# Altium integrated library ISSI SRAM Asynchronous SRAM 5V High-Speed.IntLib: 100 symbols (part 2 of 5)
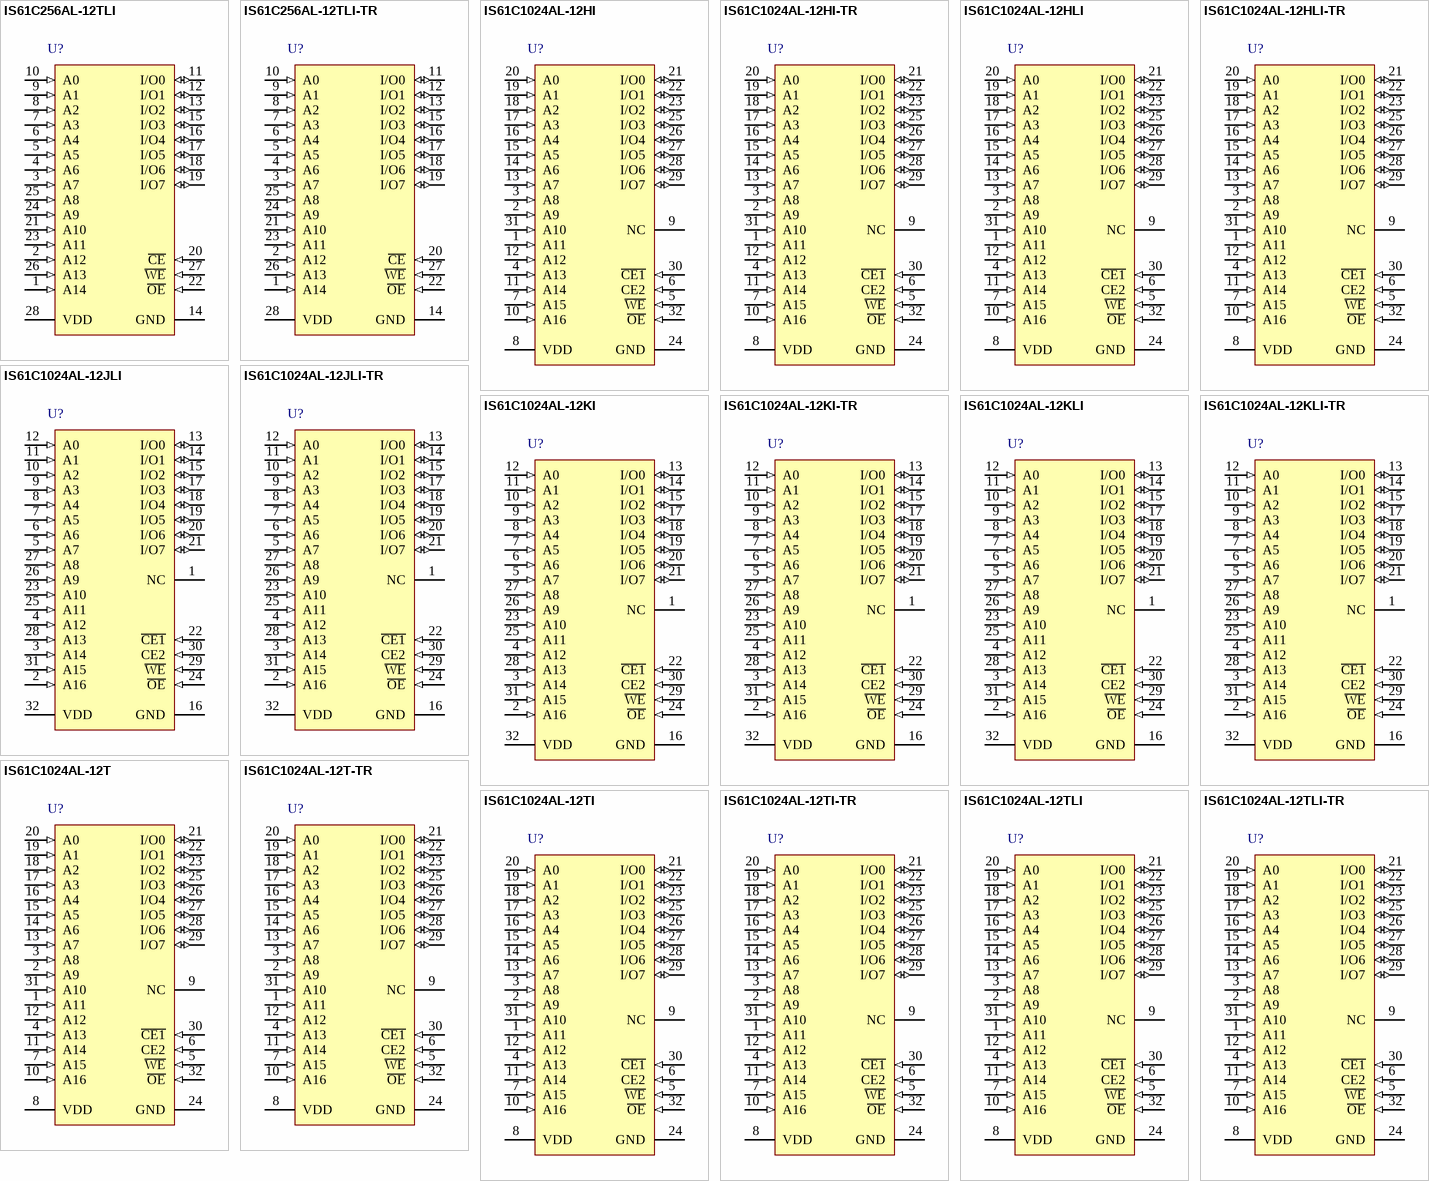
[diagram p6: symbols IS61C256AL-12TLI to IS61C1024AL-12TLI-TR]

## IS61C1024AL-12HLI
designator U?
1 M High Speed CMOS SRAM, 128 K x 8, -40 to 85 degC, 32-Pin SOP (TSOP-1-32), Pb-Free; Manufacturer: Integrated Silicon Solution Inc (ISSI); PartNumber: IS61C1024AL-12HLI; Density: 1M; Organization: 128K x 8; Packing: Tray / Tube; Speed (ns): 12; DatasheetVersion: Rev. D; PackageVersion: Rev. B, 04/2003; PackageReference: TSOP-1-32; PackageDescription: 32-Pin 8.00 x 13.4 mm TSOP-1, Pitch 0.5 mm; Supplier 1: Digi-Key; Supplier Part Number 1: IS61C1024AL-12HLI-ND; Supplier 2: Mouser; Supplier Part Number 2: 870-61C1024AL-12HLI; RoHS: Pb-Free; Mounting Technology: Surface Mount; ComponentLink1Description: Manufacturer URL; ComponentLink1URL: http://www.issi.com/US/index.shtml; ComponentLink2Description: Datasheet; ComponentLink2URL: http://www.issi.com/WW/pdf/61-64C1024AL.pdf; ComponentLink3Description: Package Specification; ComponentLink3URL: http://www.issi.com/WW/pdf/61-64C1024AL.pdf
footprint ISSI-TSOP-1-32-8000x13400DE_N (SOP, 32-Leads, Body 11.9x8.1mm, Pitch 0.5mm, IPC Medium Density)
pins: 1 A11 (in) "Address Input", 2 A9 (in) "Address Input", 3 A8 (in) "Address Input", 4 A13 (in) "Address Input", 5 ~{WE} (in) "Write Enable Input", 6 CE2 (in) "Chip Enable 2 Input", 7 A15 (in) "Address Input", 8 VDD (power) "Power", 9 NC "No Connection", 10 A16 (in) "Address Input", 11 A14 (in) "Address Input", 12 A12 (in) "Address Input", 13 A7 (in) "Address Input", 14 A6 (in) "Address Input", 15 A5 (in) "Address Input", 16 A4 (in) "Address Input", 17 A3 (in) "Address Input", 18 A2 (in) "Address Input", 19 A1 (in) "Address Input", 20 A0 (in) "Address Input", 21 I/O0 (io) "Input/Output", 22 I/O1 (io) "Input/Output", 23 I/O2 (io) "Input/Output", 24 GND (power) "Ground", 25 I/O3 (io) "Input/Output", 26 I/O4 (io) "Input/Output", 27 I/O5 (io) "Input/Output", 28 I/O6 (io) "Input/Output", 29 I/O7 (io) "Input/Output", 30 ~{CE1} (in) "Chip Enable 1 Input", 31 A10 (in) "Address Input", 32 ~{OE} (in) "Output Enable Input"

## IS61C1024AL-12HLI-TR
designator U?
1 M High Speed CMOS SRAM, 128 K x 8, -40 to 85 degC, 32-Pin SOP (TSOP-1-32), Pb-Free; Manufacturer: Integrated Silicon Solution Inc (ISSI); PartNumber: IS61C1024AL-12HLI-TR; Density: 1M; Organization: 128K x 8; Packing: Tape & Reel; Speed (ns): 12; DatasheetVersion: Rev. D; PackageVersion: Rev. E, 06/2006; PackageReference: TSOP-1-32; PackageDescription: 32-Pin TSOP-1, Body 8 x 20 mm, Pitch 0.50 mm; Supplier 1: Digi-Key; Supplier Part Number 1: IS61C1024AL-12HLI-TR-ND; Supplier 2: Mouser; Supplier Part Number 2: 870-61C1024AL-12HLIT; RoHS: Pb-Free; Mounting Technology: Surface Mount; ComponentLink1Description: Manufacturer URL; ComponentLink1URL: http://www.issi.com/US/index.shtml; ComponentLink2Description: Datasheet; ComponentLink2URL: http://www.issi.com/WW/pdf/61-64C1024AL.pdf; ComponentLink3Description: Package Specification; ComponentLink3URL: http://www.issi.com/WW/pdf/61-64C1024AL.pdf
footprint ISSI-TSOP-1-32-8000x20000DE_N (SOP, 32-Leads, Body 18.5x8.2mm, Pitch 0.5mm, IPC Medium Density)
pins: 1 A11 (in) "Address Input", 2 A9 (in) "Address Input", 3 A8 (in) "Address Input", 4 A13 (in) "Address Input", 5 ~{WE} (in) "Write Enable Input", 6 CE2 (in) "Chip Enable 2 Input", 7 A15 (in) "Address Input", 8 VDD (power) "Power", 9 NC "No Connection", 10 A16 (in) "Address Input", 11 A14 (in) "Address Input", 12 A12 (in) "Address Input", 13 A7 (in) "Address Input", 14 A6 (in) "Address Input", 15 A5 (in) "Address Input", 16 A4 (in) "Address Input", 17 A3 (in) "Address Input", 18 A2 (in) "Address Input", 19 A1 (in) "Address Input", 20 A0 (in) "Address Input", 21 I/O0 (io) "Input/Output", 22 I/O1 (io) "Input/Output", 23 I/O2 (io) "Input/Output", 24 GND (power) "Ground", 25 I/O3 (io) "Input/Output", 26 I/O4 (io) "Input/Output", 27 I/O5 (io) "Input/Output", 28 I/O6 (io) "Input/Output", 29 I/O7 (io) "Input/Output", 30 ~{CE1} (in) "Chip Enable 1 Input", 31 A10 (in) "Address Input", 32 ~{OE} (in) "Output Enable Input"

## IS61C1024AL-12JLI
designator U?
1 M High Speed CMOS SRAM, 128 K x 8, -40 to 85 degC, 32-Pin SOJ (SOJ-32), Pb-Free; Manufacturer: Integrated Silicon Solution Inc (ISSI); PartNumber: IS61C1024AL-12JLI; Density: 1M; Organization: 128K x 8; Packing: Tray / Tube; Speed (ns): 12; DatasheetVersion: Rev. D; PackageVersion: Rev. C, 08/2009; PackageReference: SOJ-32; PackageDescription: 32-Pin 300 mil SOJ, Body 20.96 x 7.62 mm, Pitch 1.27 mm; Supplier 1: Digi-Key; Supplier Part Number 1: 706-1028-ND; Supplier 2: Farnell; Supplier Part Number 2: 1695576; Supplier 3: Newark; Supplier Part Number 3: 43M5025; Supplier 4: Mouser; Supplier Part Number 4: 870IS61C1024AL12JLI; RoHS: Pb-Free; Mounting Technology: Surface Mount; ComponentLink1Description: Manufacturer URL; ComponentLink1URL: http://www.issi.com/US/index.shtml; ComponentLink2Description: Datasheet; ComponentLink2URL: http://www.issi.com/WW/pdf/61-64C1024AL.pdf; ComponentLink3Description: Package Specification; ComponentLink3URL: http://www.issi.com/WW/pdf/61-64C1024AL.pdf
footprint ISSI-SOJ-32_A_N (SOJ, 32-Leads, Body 21.09x7.75mm, Pitch 1.27mm, IPC Medium Density)
pins: 1 NC, 2 A16 (in) "Address Input", 3 A14 (in) "Address Input", 4 A12 (in) "Address Input", 5 A7 (in) "Address Input", 6 A6 (in) "Address Input", 7 A5 (in) "Address Input", 8 A4 (in) "Address Input", 9 A3 (in) "Address Input", 10 A2 (in) "Address Input", 11 A1 (in) "Address Input", 12 A0 (in) "Address Input", 13 I/O0 (io) "Input/Output", 14 I/O1 (io) "Input/Output", 15 I/O2 (io) "Input/Output", 16 GND (power) "Ground", 17 I/O3 (io) "Input/Output", 18 I/O4 (io) "Input/Output", 19 I/O5 (io) "Input/Output", 20 I/O6 (io) "Input/Output", 21 I/O7 (io) "Input/Output", 22 ~{CE1} (in) "Chip Enable 1 Input", 23 A10 (in) "Address Input", 24 ~{OE} (in) "Output Enable Input", 25 A11 (in) "Address Input", 26 A9 (in) "Address Input", 27 A8 (in) "Address Input", 28 A13 (in) "Address Input", 29 ~{WE} (in) "Write Enable Input", 30 CE2 (in) "Chip Enable 2 Input", 31 A15 (in) "Address Input", 32 VDD (power) "Power"

## IS61C1024AL-12JLI-TR
designator U?
1 M High Speed CMOS SRAM, 128 K x 8, -40 to 85 degC, 32-Pin SOJ (SOJ-32_A), Pb-Free; Manufacturer: Integrated Silicon Solution Inc (ISSI); PartNumber: IS61C1024AL-12JLI-TR; Density: 1M; Organization: 128K x 8; Packing: Tape & Reel; Speed (ns): 12; DatasheetVersion: Rev. D; PackageVersion: Rev. C, 08/2009; PackageReference: SOJ-32; PackageDescription: 32-Pin 300 mil SOJ, Body 20.96 x 7.62 mm, Pitch 1.27 mm; Supplier 1: Digi-Key; Supplier Part Number 1: IS61C1024AL-12JLI-TR-ND; Supplier 2: Mouser; Supplier Part Number 2: 870IS61C1024AL12JLIT; RoHS: Pb-Free; Mounting Technology: Surface Mount; ComponentLink1Description: Manufacturer URL; ComponentLink1URL: http://www.issi.com/US/index.shtml; ComponentLink2Description: Datasheet; ComponentLink2URL: http://www.issi.com/WW/pdf/61-64C1024AL.pdf; ComponentLink3Description: Package Specification; ComponentLink3URL: http://www.issi.com/WW/pdf/61-64C1024AL.pdf
footprint ISSI-SOJ-32_A_N (SOJ, 32-Leads, Body 21.09x7.75mm, Pitch 1.27mm, IPC Medium Density)
pins: 1 NC, 2 A16 (in) "Address Input", 3 A14 (in) "Address Input", 4 A12 (in) "Address Input", 5 A7 (in) "Address Input", 6 A6 (in) "Address Input", 7 A5 (in) "Address Input", 8 A4 (in) "Address Input", 9 A3 (in) "Address Input", 10 A2 (in) "Address Input", 11 A1 (in) "Address Input", 12 A0 (in) "Address Input", 13 I/O0 (io) "Input/Output", 14 I/O1 (io) "Input/Output", 15 I/O2 (io) "Input/Output", 16 GND (power) "Ground", 17 I/O3 (io) "Input/Output", 18 I/O4 (io) "Input/Output", 19 I/O5 (io) "Input/Output", 20 I/O6 (io) "Input/Output", 21 I/O7 (io) "Input/Output", 22 ~{CE1} (in) "Chip Enable 1 Input", 23 A10 (in) "Address Input", 24 ~{OE} (in) "Output Enable Input", 25 A11 (in) "Address Input", 26 A9 (in) "Address Input", 27 A8 (in) "Address Input", 28 A13 (in) "Address Input", 29 ~{WE} (in) "Write Enable Input", 30 CE2 (in) "Chip Enable 2 Input", 31 A15 (in) "Address Input", 32 VDD (power) "Power"

## IS61C1024AL-12KI
designator U?
1 M High Speed CMOS SRAM, 128 K x 8, -40 to 85 degC, 32-Pin SOJ (SOJ-32); Manufacturer: Integrated Silicon Solution Inc (ISSI); PartNumber: IS61C1024AL-12KI; Density: 1M; Organization: 128K x 8; Packing: Tray / Tube; Speed (ns): 12; DatasheetVersion: Rev. D; PackageVersion: Rev. E, 12/2007; PackageReference: SOJ-32; PackageDescription: 32-Pin 400 mil SOJ, Body 20.95 x 10.16 mm, Pitch 1.27 mm; Supplier 1: Digi-Key; Supplier Part Number 1: IS61C1024AL-12KI-ND; Supplier 2: Mouser; Supplier Part Number 2: 870-IS61C1024AL-12KI; Mounting Technology: Surface Mount; Code_JEDEC: MS-027; ComponentLink1Description: Manufacturer URL; ComponentLink1URL: http://www.issi.com/US/index.shtml; ComponentLink2Description: Datasheet; ComponentLink2URL: http://www.issi.com/WW/pdf/61-64C1024AL.pdf; ComponentLink3Description: Package Specification; ComponentLink3URL: http://www.issi.com/WW/pdf/61-64C1024AL.pdf
footprint ISSI-SOJ-32_B_N (SOJ, 32-Leads, Body 21.08x10.29mm, Pitch 1.27mm, IPC Medium Density)
pins: 1 NC, 2 A16 (in) "Address Input", 3 A14 (in) "Address Input", 4 A12 (in) "Address Input", 5 A7 (in) "Address Input", 6 A6 (in) "Address Input", 7 A5 (in) "Address Input", 8 A4 (in) "Address Input", 9 A3 (in) "Address Input", 10 A2 (in) "Address Input", 11 A1 (in) "Address Input", 12 A0 (in) "Address Input", 13 I/O0 (io) "Input/Output", 14 I/O1 (io) "Input/Output", 15 I/O2 (io) "Input/Output", 16 GND (power) "Ground", 17 I/O3 (io) "Input/Output", 18 I/O4 (io) "Input/Output", 19 I/O5 (io) "Input/Output", 20 I/O6 (io) "Input/Output", 21 I/O7 (io) "Input/Output", 22 ~{CE1} (in) "Chip Enable 1 Input", 23 A10 (in) "Address Input", 24 ~{OE} (in) "Output Enable Input", 25 A11 (in) "Address Input", 26 A9 (in) "Address Input", 27 A8 (in) "Address Input", 28 A13 (in) "Address Input", 29 ~{WE} (in) "Write Enable Input", 30 CE2 (in) "Chip Enable 2 Input", 31 A15 (in) "Address Input", 32 VDD (power) "Power"

## IS61C1024AL-12KI-TR
designator U?
1 M High Speed CMOS SRAM, 128 K x 8, -40 to 85 degC, 32-Pin SOJ (SOJ-32_A); Manufacturer: Integrated Silicon Solution Inc (ISSI); PartNumber: IS61C1024AL-12KI-TR; Density: 1M; Organization: 128K x 8; Packing: Tape & Reel; Speed (ns): 12; DatasheetVersion: Rev. D; PackageVersion: Rev. C, 08/2009; PackageReference: SOJ-32; PackageDescription: 32-Pin 300 mil SOJ, Body 20.96 x 7.62 mm, Pitch 1.27 mm; Supplier 1: Digi-Key; Supplier Part Number 1: IS61C1024AL-12KI-TR-ND; Supplier 2: Mouser; Supplier Part Number 2: 870IS61C1024AL12KITR; Mounting Technology: Surface Mount; ComponentLink1Description: Manufacturer URL; ComponentLink1URL: http://www.issi.com/US/index.shtml; ComponentLink2Description: Datasheet; ComponentLink2URL: http://www.issi.com/WW/pdf/61-64C1024AL.pdf; ComponentLink3Description: Package Specification; ComponentLink3URL: http://www.issi.com/WW/pdf/61-64C1024AL.pdf
footprint ISSI-SOJ-32_A_N (SOJ, 32-Leads, Body 21.09x7.75mm, Pitch 1.27mm, IPC Medium Density)
pins: 1 NC, 2 A16 (in) "Address Input", 3 A14 (in) "Address Input", 4 A12 (in) "Address Input", 5 A7 (in) "Address Input", 6 A6 (in) "Address Input", 7 A5 (in) "Address Input", 8 A4 (in) "Address Input", 9 A3 (in) "Address Input", 10 A2 (in) "Address Input", 11 A1 (in) "Address Input", 12 A0 (in) "Address Input", 13 I/O0 (io) "Input/Output", 14 I/O1 (io) "Input/Output", 15 I/O2 (io) "Input/Output", 16 GND (power) "Ground", 17 I/O3 (io) "Input/Output", 18 I/O4 (io) "Input/Output", 19 I/O5 (io) "Input/Output", 20 I/O6 (io) "Input/Output", 21 I/O7 (io) "Input/Output", 22 ~{CE1} (in) "Chip Enable 1 Input", 23 A10 (in) "Address Input", 24 ~{OE} (in) "Output Enable Input", 25 A11 (in) "Address Input", 26 A9 (in) "Address Input", 27 A8 (in) "Address Input", 28 A13 (in) "Address Input", 29 ~{WE} (in) "Write Enable Input", 30 CE2 (in) "Chip Enable 2 Input", 31 A15 (in) "Address Input", 32 VDD (power) "Power"

## IS61C1024AL-12KLI
designator U?
1 M High Speed CMOS SRAM, 128 K x 8, -40 to 85 degC, 32-Pin SOJ (SOJ-32), Pb-Free; Manufacturer: Integrated Silicon Solution Inc (ISSI); PartNumber: IS61C1024AL-12KLI; Density: 1M; Organization: 128K x 8; Packing: Tray / Tube; Speed (ns): 12; DatasheetVersion: Rev. D; PackageVersion: Rev. E, 12/2007; PackageReference: SOJ-32; PackageDescription: 32-Pin 400 mil SOJ, Body 20.95 x 10.16 mm, Pitch 1.27 mm; Supplier 1: Digi-Key; Supplier Part Number 1: 706-1029-ND; Supplier 2: Newark; Supplier Part Number 2: 43M5029; Supplier 3: Mouser; Supplier Part Number 3: 870IS61C1024AL12KLI; RoHS: Pb-Free; Mounting Technology: Surface Mount; Code_JEDEC: MS-027; ComponentLink1Description: Manufacturer URL; ComponentLink1URL: http://www.issi.com/US/index.shtml; ComponentLink2Description: Datasheet; ComponentLink2URL: http://www.issi.com/WW/pdf/61-64C1024AL.pdf; ComponentLink3Description: Package Specification; ComponentLink3URL: http://www.issi.com/WW/pdf/61-64C1024AL.pdf
footprint ISSI-SOJ-32_B_N (SOJ, 32-Leads, Body 21.08x10.29mm, Pitch 1.27mm, IPC Medium Density)
pins: 1 NC, 2 A16 (in) "Address Input", 3 A14 (in) "Address Input", 4 A12 (in) "Address Input", 5 A7 (in) "Address Input", 6 A6 (in) "Address Input", 7 A5 (in) "Address Input", 8 A4 (in) "Address Input", 9 A3 (in) "Address Input", 10 A2 (in) "Address Input", 11 A1 (in) "Address Input", 12 A0 (in) "Address Input", 13 I/O0 (io) "Input/Output", 14 I/O1 (io) "Input/Output", 15 I/O2 (io) "Input/Output", 16 GND (power) "Ground", 17 I/O3 (io) "Input/Output", 18 I/O4 (io) "Input/Output", 19 I/O5 (io) "Input/Output", 20 I/O6 (io) "Input/Output", 21 I/O7 (io) "Input/Output", 22 ~{CE1} (in) "Chip Enable 1 Input", 23 A10 (in) "Address Input", 24 ~{OE} (in) "Output Enable Input", 25 A11 (in) "Address Input", 26 A9 (in) "Address Input", 27 A8 (in) "Address Input", 28 A13 (in) "Address Input", 29 ~{WE} (in) "Write Enable Input", 30 CE2 (in) "Chip Enable 2 Input", 31 A15 (in) "Address Input", 32 VDD (power) "Power"

## IS61C1024AL-12KLI-TR
designator U?
1 M High Speed CMOS SRAM, 128 K x 8, -40 to 85 degC, 32-Pin SOJ (SOJ-32_A), Pb-Free; Manufacturer: Integrated Silicon Solution Inc (ISSI); PartNumber: IS61C1024AL-12KLI-TR; Density: 1M; Organization: 128K x 8; Packing: Tape & Reel; Speed (ns): 12; DatasheetVersion: Rev. D; PackageVersion: Rev. C, 08/2009; PackageReference: SOJ-32; PackageDescription: 32-Pin 300 mil SOJ, Body 20.96 x 7.62 mm, Pitch 1.27 mm; Supplier 1: Digi-Key; Supplier Part Number 1: IS61C1024AL-12KLI-TR-ND; Supplier 2: Mouser; Supplier Part Number 2: 870IS61C1024AL12KLIT; RoHS: Pb-Free; Mounting Technology: Surface Mount; ComponentLink1Description: Manufacturer URL; ComponentLink1URL: http://www.issi.com/US/index.shtml; ComponentLink2Description: Datasheet; ComponentLink2URL: http://www.issi.com/WW/pdf/61-64C1024AL.pdf; ComponentLink3Description: Package Specification; ComponentLink3URL: http://www.issi.com/WW/pdf/61-64C1024AL.pdf
footprint ISSI-SOJ-32_A_N (SOJ, 32-Leads, Body 21.09x7.75mm, Pitch 1.27mm, IPC Medium Density)
pins: 1 NC, 2 A16 (in) "Address Input", 3 A14 (in) "Address Input", 4 A12 (in) "Address Input", 5 A7 (in) "Address Input", 6 A6 (in) "Address Input", 7 A5 (in) "Address Input", 8 A4 (in) "Address Input", 9 A3 (in) "Address Input", 10 A2 (in) "Address Input", 11 A1 (in) "Address Input", 12 A0 (in) "Address Input", 13 I/O0 (io) "Input/Output", 14 I/O1 (io) "Input/Output", 15 I/O2 (io) "Input/Output", 16 GND (power) "Ground", 17 I/O3 (io) "Input/Output", 18 I/O4 (io) "Input/Output", 19 I/O5 (io) "Input/Output", 20 I/O6 (io) "Input/Output", 21 I/O7 (io) "Input/Output", 22 ~{CE1} (in) "Chip Enable 1 Input", 23 A10 (in) "Address Input", 24 ~{OE} (in) "Output Enable Input", 25 A11 (in) "Address Input", 26 A9 (in) "Address Input", 27 A8 (in) "Address Input", 28 A13 (in) "Address Input", 29 ~{WE} (in) "Write Enable Input", 30 CE2 (in) "Chip Enable 2 Input", 31 A15 (in) "Address Input", 32 VDD (power) "Power"

## IS61C1024AL-12T
designator U?
1 M High Speed CMOS SRAM, 128 K x 8, 0 to 70 degC, 32-Pin SOP (TSOP-1-32); Manufacturer: Integrated Silicon Solution Inc (ISSI); PartNumber: IS61C1024AL-12T; Density: 1M; Organization: 128K x 8; Packing: Tray / Tube; Speed (ns): 12; DatasheetVersion: Rev. D; PackageVersion: Rev. E, 06/2006; PackageReference: TSOP-1-32; PackageDescription: 32-Pin TSOP-1, Body 8 x 20 mm, Pitch 0.50 mm; Supplier 1: Mouser; Supplier Part Number 1: N/A; Mounting Technology: Surface Mount; ComponentLink1Description: Manufacturer URL; ComponentLink1URL: http://www.issi.com/US/index.shtml; ComponentLink2Description: Datasheet; ComponentLink2URL: http://www.issi.com/WW/pdf/61-64C1024AL.pdf; ComponentLink3Description: Package Specification; ComponentLink3URL: http://www.issi.com/WW/pdf/61-64C1024AL.pdf
footprint ISSI-TSOP-1-32-8000x20000DE_N (SOP, 32-Leads, Body 18.5x8.2mm, Pitch 0.5mm, IPC Medium Density)
pins: 1 A11 (in) "Address Input", 2 A9 (in) "Address Input", 3 A8 (in) "Address Input", 4 A13 (in) "Address Input", 5 ~{WE} (in) "Write Enable Input", 6 CE2 (in) "Chip Enable 2 Input", 7 A15 (in) "Address Input", 8 VDD (power) "Power", 9 NC "No Connection", 10 A16 (in) "Address Input", 11 A14 (in) "Address Input", 12 A12 (in) "Address Input", 13 A7 (in) "Address Input", 14 A6 (in) "Address Input", 15 A5 (in) "Address Input", 16 A4 (in) "Address Input", 17 A3 (in) "Address Input", 18 A2 (in) "Address Input", 19 A1 (in) "Address Input", 20 A0 (in) "Address Input", 21 I/O0 (io) "Input/Output", 22 I/O1 (io) "Input/Output", 23 I/O2 (io) "Input/Output", 24 GND (power) "Ground", 25 I/O3 (io) "Input/Output", 26 I/O4 (io) "Input/Output", 27 I/O5 (io) "Input/Output", 28 I/O6 (io) "Input/Output", 29 I/O7 (io) "Input/Output", 30 ~{CE1} (in) "Chip Enable 1 Input", 31 A10 (in) "Address Input", 32 ~{OE} (in) "Output Enable Input"

## IS61C1024AL-12T-TR
designator U?
1 M High Speed CMOS SRAM, 128 K x 8, 0 to 70 degC, 32-Pin SOP (TSOP-1-32); Manufacturer: Integrated Silicon Solution Inc (ISSI); PartNumber: IS61C1024AL-12T-TR; Density: 1M; Organization: 128K x 8; Packing: Tape & Reel; Speed (ns): 12; DatasheetVersion: Rev. D; PackageVersion: Rev. E, 06/2006; PackageReference: TSOP-1-32; PackageDescription: 32-Pin TSOP-1, Body 8 x 20 mm, Pitch 0.50 mm; Mounting Technology: Surface Mount; ComponentLink1Description: Manufacturer URL; ComponentLink1URL: http://www.issi.com/US/index.shtml; ComponentLink2Description: Datasheet; ComponentLink2URL: http://www.issi.com/WW/pdf/61-64C1024AL.pdf; ComponentLink3Description: Package Specification; ComponentLink3URL: http://www.issi.com/WW/pdf/61-64C1024AL.pdf
footprint ISSI-TSOP-1-32-8000x20000DE_N (SOP, 32-Leads, Body 18.5x8.2mm, Pitch 0.5mm, IPC Medium Density)
pins: 1 A11 (in) "Address Input", 2 A9 (in) "Address Input", 3 A8 (in) "Address Input", 4 A13 (in) "Address Input", 5 ~{WE} (in) "Write Enable Input", 6 CE2 (in) "Chip Enable 2 Input", 7 A15 (in) "Address Input", 8 VDD (power) "Power", 9 NC "No Connection", 10 A16 (in) "Address Input", 11 A14 (in) "Address Input", 12 A12 (in) "Address Input", 13 A7 (in) "Address Input", 14 A6 (in) "Address Input", 15 A5 (in) "Address Input", 16 A4 (in) "Address Input", 17 A3 (in) "Address Input", 18 A2 (in) "Address Input", 19 A1 (in) "Address Input", 20 A0 (in) "Address Input", 21 I/O0 (io) "Input/Output", 22 I/O1 (io) "Input/Output", 23 I/O2 (io) "Input/Output", 24 GND (power) "Ground", 25 I/O3 (io) "Input/Output", 26 I/O4 (io) "Input/Output", 27 I/O5 (io) "Input/Output", 28 I/O6 (io) "Input/Output", 29 I/O7 (io) "Input/Output", 30 ~{CE1} (in) "Chip Enable 1 Input", 31 A10 (in) "Address Input", 32 ~{OE} (in) "Output Enable Input"

## IS61C1024AL-12TI
designator U?
1 M High Speed CMOS SRAM, 128 K x 8, -40 to 85 degC, 32-Pin SOP (TSOP-1-32); Manufacturer: Integrated Silicon Solution Inc (ISSI); PartNumber: IS61C1024AL-12TI; Density: 1M; Organization: 128K x 8; Packing: Tray / Tube; Speed (ns): 12; DatasheetVersion: Rev. D; PackageVersion: Rev. E, 06/2006; PackageReference: TSOP-1-32; PackageDescription: 32-Pin TSOP-1, Body 8 x 20 mm, Pitch 0.50 mm; Supplier 1: Digi-Key; Supplier Part Number 1: IS61C1024AL-12TI-ND; Supplier 2: Newark; Supplier Part Number 2: 43M5031; Supplier 3: Mouser; Supplier Part Number 3: 870-IS61C1024AL-12TI; Mounting Technology: Surface Mount; ComponentLink1Description: Manufacturer URL; ComponentLink1URL: http://www.issi.com/US/index.shtml; ComponentLink2Description: Datasheet; ComponentLink2URL: http://www.issi.com/WW/pdf/61-64C1024AL.pdf; ComponentLink3Description: Package Specification; ComponentLink3URL: http://www.issi.com/WW/pdf/61-64C1024AL.pdf
footprint ISSI-TSOP-1-32-8000x20000DE_N (SOP, 32-Leads, Body 18.5x8.2mm, Pitch 0.5mm, IPC Medium Density)
pins: 1 A11 (in) "Address Input", 2 A9 (in) "Address Input", 3 A8 (in) "Address Input", 4 A13 (in) "Address Input", 5 ~{WE} (in) "Write Enable Input", 6 CE2 (in) "Chip Enable 2 Input", 7 A15 (in) "Address Input", 8 VDD (power) "Power", 9 NC "No Connection", 10 A16 (in) "Address Input", 11 A14 (in) "Address Input", 12 A12 (in) "Address Input", 13 A7 (in) "Address Input", 14 A6 (in) "Address Input", 15 A5 (in) "Address Input", 16 A4 (in) "Address Input", 17 A3 (in) "Address Input", 18 A2 (in) "Address Input", 19 A1 (in) "Address Input", 20 A0 (in) "Address Input", 21 I/O0 (io) "Input/Output", 22 I/O1 (io) "Input/Output", 23 I/O2 (io) "Input/Output", 24 GND (power) "Ground", 25 I/O3 (io) "Input/Output", 26 I/O4 (io) "Input/Output", 27 I/O5 (io) "Input/Output", 28 I/O6 (io) "Input/Output", 29 I/O7 (io) "Input/Output", 30 ~{CE1} (in) "Chip Enable 1 Input", 31 A10 (in) "Address Input", 32 ~{OE} (in) "Output Enable Input"

## IS61C1024AL-12TI-TR
designator U?
1 M High Speed CMOS SRAM, 128 K x 8, -40 to 85 degC, 32-Pin SOP (TSOP-1-32); Manufacturer: Integrated Silicon Solution Inc (ISSI); PartNumber: IS61C1024AL-12TI-TR; Density: 1M; Organization: 128K x 8; Packing: Tape & Reel; Speed (ns): 12; DatasheetVersion: Rev. D; PackageVersion: Rev. E, 06/2006; PackageReference: TSOP-1-32; PackageDescription: 32-Pin TSOP-1, Body 8 x 20 mm, Pitch 0.50 mm; Supplier 1: Digi-Key; Supplier Part Number 1: IS61C1024AL-12TI-TR-ND; Supplier 2: Mouser; Supplier Part Number 2: 870IS61C1024AL12TITR; Mounting Technology: Surface Mount; ComponentLink1Description: Manufacturer URL; ComponentLink1URL: http://www.issi.com/US/index.shtml; ComponentLink2Description: Datasheet; ComponentLink2URL: http://www.issi.com/WW/pdf/61-64C1024AL.pdf; ComponentLink3Description: Package Specification; ComponentLink3URL: http://www.issi.com/WW/pdf/61-64C1024AL.pdf
footprint ISSI-TSOP-1-32-8000x20000DE_N (SOP, 32-Leads, Body 18.5x8.2mm, Pitch 0.5mm, IPC Medium Density)
pins: 1 A11 (in) "Address Input", 2 A9 (in) "Address Input", 3 A8 (in) "Address Input", 4 A13 (in) "Address Input", 5 ~{WE} (in) "Write Enable Input", 6 CE2 (in) "Chip Enable 2 Input", 7 A15 (in) "Address Input", 8 VDD (power) "Power", 9 NC "No Connection", 10 A16 (in) "Address Input", 11 A14 (in) "Address Input", 12 A12 (in) "Address Input", 13 A7 (in) "Address Input", 14 A6 (in) "Address Input", 15 A5 (in) "Address Input", 16 A4 (in) "Address Input", 17 A3 (in) "Address Input", 18 A2 (in) "Address Input", 19 A1 (in) "Address Input", 20 A0 (in) "Address Input", 21 I/O0 (io) "Input/Output", 22 I/O1 (io) "Input/Output", 23 I/O2 (io) "Input/Output", 24 GND (power) "Ground", 25 I/O3 (io) "Input/Output", 26 I/O4 (io) "Input/Output", 27 I/O5 (io) "Input/Output", 28 I/O6 (io) "Input/Output", 29 I/O7 (io) "Input/Output", 30 ~{CE1} (in) "Chip Enable 1 Input", 31 A10 (in) "Address Input", 32 ~{OE} (in) "Output Enable Input"

## IS61C1024AL-12TLI
designator U?
1 M High Speed CMOS SRAM, 128 K x 8, -40 to 85 degC, 32-Pin SOP (TSOP-1-32), Pb-Free; Manufacturer: Integrated Silicon Solution Inc (ISSI); PartNumber: IS61C1024AL-12TLI; Density: 1M; Organization: 128K x 8; Packing: Tray / Tube; Speed (ns): 12; DatasheetVersion: Rev. D; PackageVersion: Rev. E, 06/2006; PackageReference: TSOP-1-32; PackageDescription: 32-Pin TSOP-1, Body 8 x 20 mm, Pitch 0.50 mm; Supplier 1: Digi-Key; Supplier Part Number 1: 706-1087-ND; Supplier 2: Mouser; Supplier Part Number 2: 870IS61C1024AL12TLI; RoHS: Pb-Free; Mounting Technology: Surface Mount; ComponentLink1Description: Manufacturer URL; ComponentLink1URL: http://www.issi.com/US/index.shtml; ComponentLink2Description: Datasheet; ComponentLink2URL: http://www.issi.com/WW/pdf/61-64C1024AL.pdf; ComponentLink3Description: Package Specification; ComponentLink3URL: http://www.issi.com/WW/pdf/61-64C1024AL.pdf
footprint ISSI-TSOP-1-32-8000x20000DE_N (SOP, 32-Leads, Body 18.5x8.2mm, Pitch 0.5mm, IPC Medium Density)
pins: 1 A11 (in) "Address Input", 2 A9 (in) "Address Input", 3 A8 (in) "Address Input", 4 A13 (in) "Address Input", 5 ~{WE} (in) "Write Enable Input", 6 CE2 (in) "Chip Enable 2 Input", 7 A15 (in) "Address Input", 8 VDD (power) "Power", 9 NC "No Connection", 10 A16 (in) "Address Input", 11 A14 (in) "Address Input", 12 A12 (in) "Address Input", 13 A7 (in) "Address Input", 14 A6 (in) "Address Input", 15 A5 (in) "Address Input", 16 A4 (in) "Address Input", 17 A3 (in) "Address Input", 18 A2 (in) "Address Input", 19 A1 (in) "Address Input", 20 A0 (in) "Address Input", 21 I/O0 (io) "Input/Output", 22 I/O1 (io) "Input/Output", 23 I/O2 (io) "Input/Output", 24 GND (power) "Ground", 25 I/O3 (io) "Input/Output", 26 I/O4 (io) "Input/Output", 27 I/O5 (io) "Input/Output", 28 I/O6 (io) "Input/Output", 29 I/O7 (io) "Input/Output", 30 ~{CE1} (in) "Chip Enable 1 Input", 31 A10 (in) "Address Input", 32 ~{OE} (in) "Output Enable Input"

## IS61C1024AL-12TLI-TR
designator U?
1 M High Speed CMOS SRAM, 128 K x 8, -40 to 85 degC, 32-Pin SOP (TSOP-1-32), Pb-Free; Manufacturer: Integrated Silicon Solution Inc (ISSI); PartNumber: IS61C1024AL-12TLI-TR; Density: 1M; Organization: 128K x 8; Packing: Tape & Reel; Speed (ns): 12; DatasheetVersion: Rev. D; PackageVersion: Rev. B, 04/2003; PackageReference: TSOP-1-32; PackageDescription: 32-Pin 8.00 x 13.4 mm TSOP-1, Pitch 0.5 mm; Supplier 1: Digi-Key; Supplier Part Number 1: IS61C1024AL-12TLI-TR-ND; Supplier 2: Mouser; Supplier Part Number 2: 870IS61C1024AL12TLIT; RoHS: Pb-Free; Mounting Technology: Surface Mount; ComponentLink1Description: Manufacturer URL; ComponentLink1URL: http://www.issi.com/US/index.shtml; ComponentLink2Description: Datasheet; ComponentLink2URL: http://www.issi.com/WW/pdf/61-64C1024AL.pdf; ComponentLink3Description: Package Specification; ComponentLink3URL: http://www.issi.com/WW/pdf/61-64C1024AL.pdf
footprint ISSI-TSOP-1-32-8000x13400DE_N (SOP, 32-Leads, Body 11.9x8.1mm, Pitch 0.5mm, IPC Medium Density)
pins: 1 A11 (in) "Address Input", 2 A9 (in) "Address Input", 3 A8 (in) "Address Input", 4 A13 (in) "Address Input", 5 ~{WE} (in) "Write Enable Input", 6 CE2 (in) "Chip Enable 2 Input", 7 A15 (in) "Address Input", 8 VDD (power) "Power", 9 NC "No Connection", 10 A16 (in) "Address Input", 11 A14 (in) "Address Input", 12 A12 (in) "Address Input", 13 A7 (in) "Address Input", 14 A6 (in) "Address Input", 15 A5 (in) "Address Input", 16 A4 (in) "Address Input", 17 A3 (in) "Address Input", 18 A2 (in) "Address Input", 19 A1 (in) "Address Input", 20 A0 (in) "Address Input", 21 I/O0 (io) "Input/Output", 22 I/O1 (io) "Input/Output", 23 I/O2 (io) "Input/Output", 24 GND (power) "Ground", 25 I/O3 (io) "Input/Output", 26 I/O4 (io) "Input/Output", 27 I/O5 (io) "Input/Output", 28 I/O6 (io) "Input/Output", 29 I/O7 (io) "Input/Output", 30 ~{CE1} (in) "Chip Enable 1 Input", 31 A10 (in) "Address Input", 32 ~{OE} (in) "Output Enable Input"

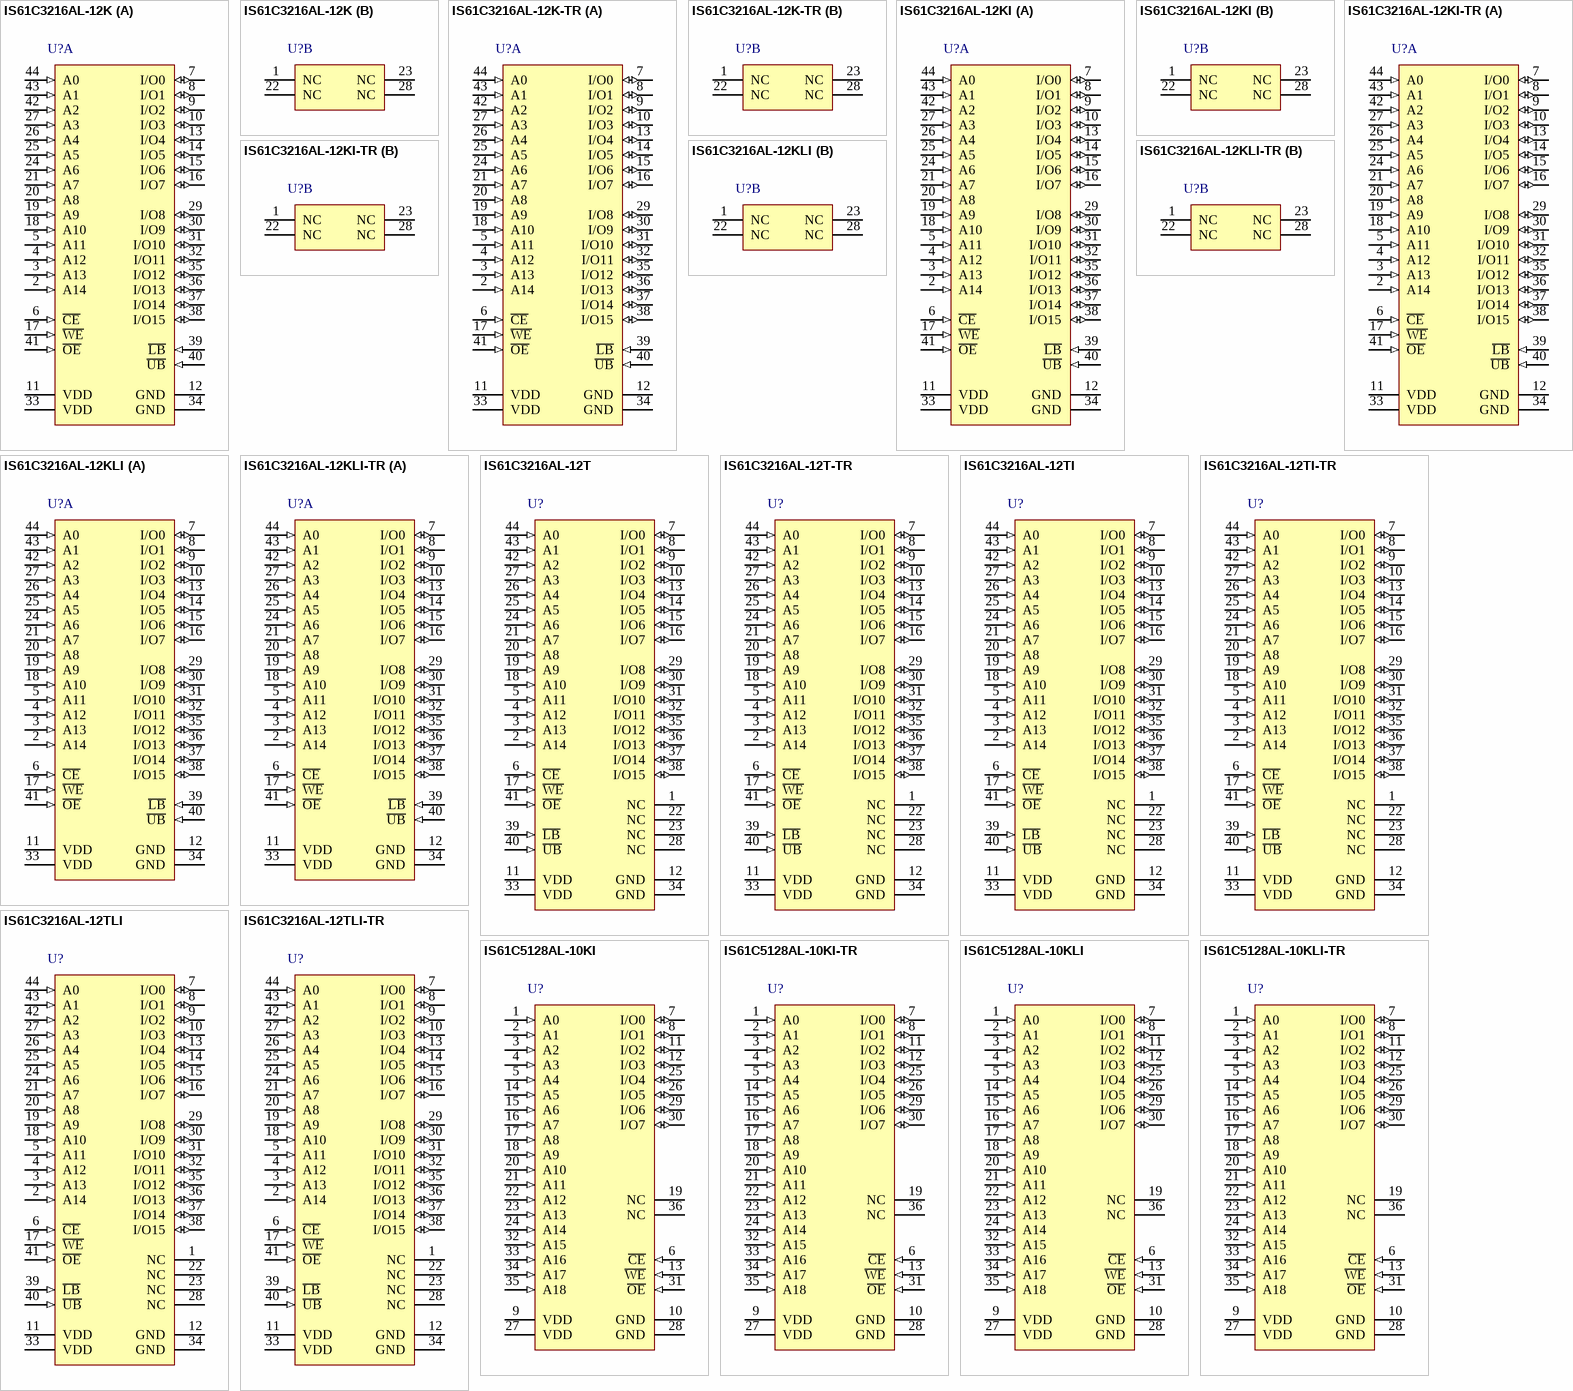
[diagram p2: symbols IS61C3216AL-12K to IS61C5128AL-10KLI-TR]

## IS61C3216AL-12K
designator U?
512 K High Speed CMOS SRAM, 32 K x 16, 0 to 70 degC, 44-Pin SOJ (SOJ-44); Manufacturer: Integrated Silicon Solution Inc (ISSI); PartNumber: IS61C3216AL-12K; Density: 512K; Organization: 32K x 16; Packing: Tray / Tube; Speed (ns): 12; DatasheetVersion: Rev. A; PackageVersion: Rev. E, 12/2007; PackageReference: SOJ-44; PackageDescription: 44-Pin 400 mil SOJ, Body 28.58 x 10.16 mm, Pitch 1.27 mm; Mounting Technology: Surface Mount; Code_JEDEC: MS-027; ComponentLink1Description: Manufacturer URL; ComponentLink1URL: http://www.issi.com/US/index.shtml; ComponentLink2Description: Datasheet; ComponentLink2URL: http://www.issi.com/WW/pdf/61C3216AL.pdf; ComponentLink3Description: Package Specification; ComponentLink3URL: http://www.issi.com/WW/pdf/61-64WV25616.pdf
footprint ISSI-SOJ-44_N (SOJ, 44-Leads, Body 28.7x10.29mm, Pitch 1.27mm, IPC Medium Density)
part A pins: 2 A14 (in) "Address Input", 3 A13 (in) "Address Input", 4 A12 (in) "Address Input", 5 A11 (in) "Address Input", 6 ~{CE} (in) "Chip Enable Input", 7 I/O0 (io) "Data Inputs/Output", 8 I/O1 (io) "Data Inputs/Output", 9 I/O2 (io) "Data Inputs/Output", 10 I/O3 (io) "Data Inputs/Output", 11 VDD (power) "Power", 12 GND (power) "Ground", 13 I/O4 (io) "Data Inputs/Output", 14 I/O5 (io) "Data Inputs/Output", 15 I/O6 (io) "Data Inputs/Output", 16 I/O7 (io) "Data Inputs/Output", 17 ~{WE} (in) "Write Enable Input", 18 A10 (in) "Address Input", 19 A9 (in) "Address Input", 20 A8 (in) "Address Input", 21 A7 (in) "Address Input", 24 A6 (in) "Address Input", 25 A5 (in) "Address Input", 26 A4 (in) "Address Input", 27 A3 (in) "Address Input", 29 I/O8 (io) "Data Inputs/Output", 30 I/O9 (io) "Data Inputs/Output", 31 I/O10 (io) "Data Inputs/Output", 32 I/O11 (io) "Data Inputs/Output", 33 VDD (power) "Power", 34 GND (power) "Ground", 35 I/O12 (io) "Data Inputs/Output", 36 I/O13 (io) "Data Inputs/Output", 37 I/O14 (io) "Data Inputs/Output", 38 I/O15 (io) "Data Inputs/Output", 39 ~{LB} (in) "Lower-byte Control (I/O0-I/O7)", 40 ~{UB} (in) "Upper-byte Control (I/O8-I/O15)", 41 ~{OE} (in) "Output Enable Input", 42 A2 (in) "Address Input", 43 A1 (in) "Address Input", 44 A0 (in) "Address Input"
part B pins: 1 NC "No Connection", 22 NC "No Connection", 23 NC "No Connection", 28 NC "No Connection"

## IS61C3216AL-12K-TR
designator U?
512 K High Speed CMOS SRAM, 32 K x 16, 0 to 70 degC, 44-Pin SOJ (SOJ-44); Manufacturer: Integrated Silicon Solution Inc (ISSI); PartNumber: IS61C3216AL-12K-TR; Density: 512K; Organization: 32K x 16; Packing: Tape & Reel; Speed (ns): 12; DatasheetVersion: Rev. A; PackageVersion: Rev. E, 12/2007; PackageReference: SOJ-44; PackageDescription: 44-Pin 400 mil SOJ, Body 28.58 x 10.16 mm, Pitch 1.27 mm; Mounting Technology: Surface Mount; Code_JEDEC: MS-027; ComponentLink1Description: Manufacturer URL; ComponentLink1URL: http://www.issi.com/US/index.shtml; ComponentLink2Description: Datasheet; ComponentLink2URL: http://www.issi.com/WW/pdf/61C3216AL.pdf; ComponentLink3Description: Package Specification; ComponentLink3URL: http://www.issi.com/WW/pdf/61-64WV25616.pdf
footprint ISSI-SOJ-44_N (SOJ, 44-Leads, Body 28.7x10.29mm, Pitch 1.27mm, IPC Medium Density)
part A pins: 2 A14 (in) "Address Input", 3 A13 (in) "Address Input", 4 A12 (in) "Address Input", 5 A11 (in) "Address Input", 6 ~{CE} (in) "Chip Enable Input", 7 I/O0 (io) "Data Inputs/Output", 8 I/O1 (io) "Data Inputs/Output", 9 I/O2 (io) "Data Inputs/Output", 10 I/O3 (io) "Data Inputs/Output", 11 VDD (power) "Power", 12 GND (power) "Ground", 13 I/O4 (io) "Data Inputs/Output", 14 I/O5 (io) "Data Inputs/Output", 15 I/O6 (io) "Data Inputs/Output", 16 I/O7 (io) "Data Inputs/Output", 17 ~{WE} (in) "Write Enable Input", 18 A10 (in) "Address Input", 19 A9 (in) "Address Input", 20 A8 (in) "Address Input", 21 A7 (in) "Address Input", 24 A6 (in) "Address Input", 25 A5 (in) "Address Input", 26 A4 (in) "Address Input", 27 A3 (in) "Address Input", 29 I/O8 (io) "Data Inputs/Output", 30 I/O9 (io) "Data Inputs/Output", 31 I/O10 (io) "Data Inputs/Output", 32 I/O11 (io) "Data Inputs/Output", 33 VDD (power) "Power", 34 GND (power) "Ground", 35 I/O12 (io) "Data Inputs/Output", 36 I/O13 (io) "Data Inputs/Output", 37 I/O14 (io) "Data Inputs/Output", 38 I/O15 (io) "Data Inputs/Output", 39 ~{LB} (in) "Lower-byte Control (I/O0-I/O7)", 40 ~{UB} (in) "Upper-byte Control (I/O8-I/O15)", 41 ~{OE} (in) "Output Enable Input", 42 A2 (in) "Address Input", 43 A1 (in) "Address Input", 44 A0 (in) "Address Input"
part B pins: 1 NC "No Connection", 22 NC "No Connection", 23 NC "No Connection", 28 NC "No Connection"

## IS61C3216AL-12KI
designator U?
512 K High Speed CMOS SRAM, 32 K x 16, -40 to 85 degC, 44-Pin SOJ (SOJ-44); Manufacturer: Integrated Silicon Solution Inc (ISSI); PartNumber: IS61C3216AL-12KI; Density: 512K; Organization: 32K x 16; Packing: Tray / Tube; Speed (ns): 12; DatasheetVersion: Rev. A; PackageVersion: Rev. E, 12/2007; PackageReference: SOJ-44; PackageDescription: 44-Pin 400 mil SOJ, Body 28.58 x 10.16 mm, Pitch 1.27 mm; Supplier 1: Mouser; Supplier Part Number 1: N/A; Mounting Technology: Surface Mount; Code_JEDEC: MS-027; ComponentLink1Description: Manufacturer URL; ComponentLink1URL: http://www.issi.com/US/index.shtml; ComponentLink2Description: Datasheet; ComponentLink2URL: http://www.issi.com/WW/pdf/61C3216AL.pdf; ComponentLink3Description: Package Specification; ComponentLink3URL: http://www.issi.com/WW/pdf/61-64WV25616.pdf
footprint ISSI-SOJ-44_N (SOJ, 44-Leads, Body 28.7x10.29mm, Pitch 1.27mm, IPC Medium Density)
part A pins: 2 A14 (in) "Address Input", 3 A13 (in) "Address Input", 4 A12 (in) "Address Input", 5 A11 (in) "Address Input", 6 ~{CE} (in) "Chip Enable Input", 7 I/O0 (io) "Data Inputs/Output", 8 I/O1 (io) "Data Inputs/Output", 9 I/O2 (io) "Data Inputs/Output", 10 I/O3 (io) "Data Inputs/Output", 11 VDD (power) "Power", 12 GND (power) "Ground", 13 I/O4 (io) "Data Inputs/Output", 14 I/O5 (io) "Data Inputs/Output", 15 I/O6 (io) "Data Inputs/Output", 16 I/O7 (io) "Data Inputs/Output", 17 ~{WE} (in) "Write Enable Input", 18 A10 (in) "Address Input", 19 A9 (in) "Address Input", 20 A8 (in) "Address Input", 21 A7 (in) "Address Input", 24 A6 (in) "Address Input", 25 A5 (in) "Address Input", 26 A4 (in) "Address Input", 27 A3 (in) "Address Input", 29 I/O8 (io) "Data Inputs/Output", 30 I/O9 (io) "Data Inputs/Output", 31 I/O10 (io) "Data Inputs/Output", 32 I/O11 (io) "Data Inputs/Output", 33 VDD (power) "Power", 34 GND (power) "Ground", 35 I/O12 (io) "Data Inputs/Output", 36 I/O13 (io) "Data Inputs/Output", 37 I/O14 (io) "Data Inputs/Output", 38 I/O15 (io) "Data Inputs/Output", 39 ~{LB} (in) "Lower-byte Control (I/O0-I/O7)", 40 ~{UB} (in) "Upper-byte Control (I/O8-I/O15)", 41 ~{OE} (in) "Output Enable Input", 42 A2 (in) "Address Input", 43 A1 (in) "Address Input", 44 A0 (in) "Address Input"
part B pins: 1 NC "No Connection", 22 NC "No Connection", 23 NC "No Connection", 28 NC "No Connection"

## IS61C3216AL-12KI-TR
designator U?
512 K High Speed CMOS SRAM, 32 K x 16, -40 to 85 degC, 44-Pin SOJ (SOJ-44); Manufacturer: Integrated Silicon Solution Inc (ISSI); PartNumber: IS61C3216AL-12KI-TR; Density: 512K; Organization: 32K x 16; Packing: Tape & Reel; Speed (ns): 12; DatasheetVersion: Rev. A; PackageVersion: Rev. E, 12/2007; PackageReference: SOJ-44; PackageDescription: 44-Pin 400 mil SOJ, Body 28.58 x 10.16 mm, Pitch 1.27 mm; Supplier 1: Mouser; Supplier Part Number 1: N/A; Mounting Technology: Surface Mount; Code_JEDEC: MS-027; ComponentLink1Description: Manufacturer URL; ComponentLink1URL: http://www.issi.com/US/index.shtml; ComponentLink2Description: Datasheet; ComponentLink2URL: http://www.issi.com/WW/pdf/61C3216AL.pdf; ComponentLink3Description: Package Specification; ComponentLink3URL: http://www.issi.com/WW/pdf/61-64WV25616.pdf
footprint ISSI-SOJ-44_N (SOJ, 44-Leads, Body 28.7x10.29mm, Pitch 1.27mm, IPC Medium Density)
part A pins: 2 A14 (in) "Address Input", 3 A13 (in) "Address Input", 4 A12 (in) "Address Input", 5 A11 (in) "Address Input", 6 ~{CE} (in) "Chip Enable Input", 7 I/O0 (io) "Data Inputs/Output", 8 I/O1 (io) "Data Inputs/Output", 9 I/O2 (io) "Data Inputs/Output", 10 I/O3 (io) "Data Inputs/Output", 11 VDD (power) "Power", 12 GND (power) "Ground", 13 I/O4 (io) "Data Inputs/Output", 14 I/O5 (io) "Data Inputs/Output", 15 I/O6 (io) "Data Inputs/Output", 16 I/O7 (io) "Data Inputs/Output", 17 ~{WE} (in) "Write Enable Input", 18 A10 (in) "Address Input", 19 A9 (in) "Address Input", 20 A8 (in) "Address Input", 21 A7 (in) "Address Input", 24 A6 (in) "Address Input", 25 A5 (in) "Address Input", 26 A4 (in) "Address Input", 27 A3 (in) "Address Input", 29 I/O8 (io) "Data Inputs/Output", 30 I/O9 (io) "Data Inputs/Output", 31 I/O10 (io) "Data Inputs/Output", 32 I/O11 (io) "Data Inputs/Output", 33 VDD (power) "Power", 34 GND (power) "Ground", 35 I/O12 (io) "Data Inputs/Output", 36 I/O13 (io) "Data Inputs/Output", 37 I/O14 (io) "Data Inputs/Output", 38 I/O15 (io) "Data Inputs/Output", 39 ~{LB} (in) "Lower-byte Control (I/O0-I/O7)", 40 ~{UB} (in) "Upper-byte Control (I/O8-I/O15)", 41 ~{OE} (in) "Output Enable Input", 42 A2 (in) "Address Input", 43 A1 (in) "Address Input", 44 A0 (in) "Address Input"
part B pins: 1 NC "No Connection", 22 NC "No Connection", 23 NC "No Connection", 28 NC "No Connection"

## IS61C3216AL-12KLI
designator U?
512 K High Speed CMOS SRAM, 32 K x 16, -40 to 85 degC, 44-Pin SOJ (SOJ-44), Pb-Free; Manufacturer: Integrated Silicon Solution Inc (ISSI); PartNumber: IS61C3216AL-12KLI; Density: 512K; Organization: 32K x 16; Packing: Tray / Tube; Speed (ns): 12; DatasheetVersion: Rev. A; PackageVersion: Rev. E, 12/2007; PackageReference: SOJ-44; PackageDescription: 44-Pin 400 mil SOJ, Body 28.58 x 10.16 mm, Pitch 1.27 mm; Supplier 1: Digi-Key; Supplier Part Number 1: IS61C3216AL-12KLI-ND; Supplier 2: Mouser; Supplier Part Number 2: 870IS61C3216AL12KLI; RoHS: Pb-Free; Mounting Technology: Surface Mount; Code_JEDEC: MS-027; ComponentLink1Description: Manufacturer URL; ComponentLink1URL: http://www.issi.com/US/index.shtml; ComponentLink2Description: Datasheet; ComponentLink2URL: http://www.issi.com/WW/pdf/61C3216AL.pdf; ComponentLink3Description: Package Specification; ComponentLink3URL: http://www.issi.com/WW/pdf/61-64WV25616.pdf
footprint ISSI-SOJ-44_N (SOJ, 44-Leads, Body 28.7x10.29mm, Pitch 1.27mm, IPC Medium Density)
part A pins: 2 A14 (in) "Address Input", 3 A13 (in) "Address Input", 4 A12 (in) "Address Input", 5 A11 (in) "Address Input", 6 ~{CE} (in) "Chip Enable Input", 7 I/O0 (io) "Data Inputs/Output", 8 I/O1 (io) "Data Inputs/Output", 9 I/O2 (io) "Data Inputs/Output", 10 I/O3 (io) "Data Inputs/Output", 11 VDD (power) "Power", 12 GND (power) "Ground", 13 I/O4 (io) "Data Inputs/Output", 14 I/O5 (io) "Data Inputs/Output", 15 I/O6 (io) "Data Inputs/Output", 16 I/O7 (io) "Data Inputs/Output", 17 ~{WE} (in) "Write Enable Input", 18 A10 (in) "Address Input", 19 A9 (in) "Address Input", 20 A8 (in) "Address Input", 21 A7 (in) "Address Input", 24 A6 (in) "Address Input", 25 A5 (in) "Address Input", 26 A4 (in) "Address Input", 27 A3 (in) "Address Input", 29 I/O8 (io) "Data Inputs/Output", 30 I/O9 (io) "Data Inputs/Output", 31 I/O10 (io) "Data Inputs/Output", 32 I/O11 (io) "Data Inputs/Output", 33 VDD (power) "Power", 34 GND (power) "Ground", 35 I/O12 (io) "Data Inputs/Output", 36 I/O13 (io) "Data Inputs/Output", 37 I/O14 (io) "Data Inputs/Output", 38 I/O15 (io) "Data Inputs/Output", 39 ~{LB} (in) "Lower-byte Control (I/O0-I/O7)", 40 ~{UB} (in) "Upper-byte Control (I/O8-I/O15)", 41 ~{OE} (in) "Output Enable Input", 42 A2 (in) "Address Input", 43 A1 (in) "Address Input", 44 A0 (in) "Address Input"
part B pins: 1 NC "No Connection", 22 NC "No Connection", 23 NC "No Connection", 28 NC "No Connection"

## IS61C3216AL-12KLI-TR
designator U?
512 K High Speed CMOS SRAM, 32 K x 16, -40 to 85 degC, 44-Pin SOJ (SOJ-44), Pb-Free; Manufacturer: Integrated Silicon Solution Inc (ISSI); PartNumber: IS61C3216AL-12KLI-TR; Density: 512K; Organization: 32K x 16; Packing: Tape & Reel; Speed (ns): 12; DatasheetVersion: Rev. A; PackageVersion: Rev. E, 12/2007; PackageReference: SOJ-44; PackageDescription: 44-Pin 400 mil SOJ, Body 28.58 x 10.16 mm, Pitch 1.27 mm; Supplier 1: Digi-Key; Supplier Part Number 1: IS61C3216AL-12KLI-TR-ND; Supplier 2: Mouser; Supplier Part Number 2: 870IS61C3216AL12KLIT; RoHS: Pb-Free; Mounting Technology: Surface Mount; Code_JEDEC: MS-027; ComponentLink1Description: Manufacturer URL; ComponentLink1URL: http://www.issi.com/US/index.shtml; ComponentLink2Description: Datasheet; ComponentLink2URL: http://www.issi.com/WW/pdf/61C3216AL.pdf; ComponentLink3Description: Package Specification; ComponentLink3URL: http://www.issi.com/WW/pdf/61-64WV25616.pdf
footprint ISSI-SOJ-44_N (SOJ, 44-Leads, Body 28.7x10.29mm, Pitch 1.27mm, IPC Medium Density)
part A pins: 2 A14 (in) "Address Input", 3 A13 (in) "Address Input", 4 A12 (in) "Address Input", 5 A11 (in) "Address Input", 6 ~{CE} (in) "Chip Enable Input", 7 I/O0 (io) "Data Inputs/Output", 8 I/O1 (io) "Data Inputs/Output", 9 I/O2 (io) "Data Inputs/Output", 10 I/O3 (io) "Data Inputs/Output", 11 VDD (power) "Power", 12 GND (power) "Ground", 13 I/O4 (io) "Data Inputs/Output", 14 I/O5 (io) "Data Inputs/Output", 15 I/O6 (io) "Data Inputs/Output", 16 I/O7 (io) "Data Inputs/Output", 17 ~{WE} (in) "Write Enable Input", 18 A10 (in) "Address Input", 19 A9 (in) "Address Input", 20 A8 (in) "Address Input", 21 A7 (in) "Address Input", 24 A6 (in) "Address Input", 25 A5 (in) "Address Input", 26 A4 (in) "Address Input", 27 A3 (in) "Address Input", 29 I/O8 (io) "Data Inputs/Output", 30 I/O9 (io) "Data Inputs/Output", 31 I/O10 (io) "Data Inputs/Output", 32 I/O11 (io) "Data Inputs/Output", 33 VDD (power) "Power", 34 GND (power) "Ground", 35 I/O12 (io) "Data Inputs/Output", 36 I/O13 (io) "Data Inputs/Output", 37 I/O14 (io) "Data Inputs/Output", 38 I/O15 (io) "Data Inputs/Output", 39 ~{LB} (in) "Lower-byte Control (I/O0-I/O7)", 40 ~{UB} (in) "Upper-byte Control (I/O8-I/O15)", 41 ~{OE} (in) "Output Enable Input", 42 A2 (in) "Address Input", 43 A1 (in) "Address Input", 44 A0 (in) "Address Input"
part B pins: 1 NC "No Connection", 22 NC "No Connection", 23 NC "No Connection", 28 NC "No Connection"

## IS61C3216AL-12T
designator U?
512 K High Speed CMOS SRAM, 32 K x 16, 0 to 70 degC, 44-Pin SOP (TSOP-2-44); Manufacturer: Integrated Silicon Solution Inc (ISSI); PartNumber: IS61C3216AL-12T; Density: 512K; Organization: 32K x 16; Packing: Tray / Tube; Speed (ns): 12; DatasheetVersion: Rev. A; PackageVersion: Rev. F, 06/2008; PackageReference: TSOP-2-44; PackageDescription: 44-Pin 400 mil TSOP-2, Body 18.41 x 10.16 mm, Pitch 0.8 mm; Mounting Technology: Surface Mount; ComponentLink1Description: Manufacturer URL; ComponentLink1URL: http://www.issi.com/US/index.shtml; ComponentLink2Description: Datasheet; ComponentLink2URL: http://www.issi.com/WW/pdf/61C3216AL.pdf; ComponentLink3Description: Package Specification; ComponentLink3URL: http://www.issi.com/WW/pdf/61-64WV6416EEBLL.pdf
footprint ISSI-TSOP-2-44_N (SOP, 44-Leads, Body 18.5x10.3mm, Pitch 0.8mm, IPC Medium Density)
pins: 1 NC "No Connection", 2 A14 (in) "Address Inputs", 3 A13 (in) "Address Inputs", 4 A12 (in) "Address Inputs", 5 A11 (in) "Address Inputs", 6 ~{CE} (in) "Chip Enable Input", 7 I/O0 (io) "Data Inputs/Outputs", 8 I/O1 (io) "Data Inputs/Outputs", 9 I/O2 (io) "Data Inputs/Outputs", 10 I/O3 (io) "Data Inputs/Outputs", 11 VDD (power) "Power", 12 GND (power) "Ground", 13 I/O4 (io) "Data Inputs/Outputs", 14 I/O5 (io) "Data Inputs/Outputs", 15 I/O6 (io) "Data Inputs/Outputs", 16 I/O7 (io) "Data Inputs/Outputs", 17 ~{WE} (in) "Write Enable Input", 18 A10 (in) "Address Inputs", 19 A9 (in) "Address Inputs", 20 A8 (in) "Address Inputs", 21 A7 (in) "Address Inputs", 22 NC "No Connection", 23 NC "No Connection", 24 A6 (in) "Address Inputs", 25 A5 (in) "Address Inputs", 26 A4 (in) "Address Inputs", 27 A3 (in) "Address Inputs", 28 NC "No Connection", 29 I/O8 (io) "Data Inputs/Outputs", 30 I/O9 (io) "Data Inputs/Outputs", 31 I/O10 (io) "Data Inputs/Outputs", 32 I/O11 (io) "Data Inputs/Outputs", 33 VDD (power) "Power", 34 GND (power) "Ground", 35 I/O12 (io) "Data Inputs/Outputs", 36 I/O13 (io) "Data Inputs/Outputs", 37 I/O14 (io) "Data Inputs/Outputs", 38 I/O15 (io) "Data Inputs/Outputs", 39 ~{LB} (in) "Lower-byte Control (I/O0-I/O7)", 40 ~{UB} (in) "Upper-byte Control (I/O8-I/O15)", 41 ~{OE} (in) "Output Enable Input", 42 A2 (in) "Address Inputs", 43 A1 (in) "Address Inputs", 44 A0 (in) "Address Inputs"

## IS61C3216AL-12T-TR
designator U?
512 K High Speed CMOS SRAM, 32 K x 16, 0 to 70 degC, 44-Pin SOP (TSOP-2-44); Manufacturer: Integrated Silicon Solution Inc (ISSI); PartNumber: IS61C3216AL-12T-TR; Density: 512K; Organization: 32K x 16; Packing: Tape & Reel; Speed (ns): 12; DatasheetVersion: Rev. A; PackageVersion: Rev. F, 06/2008; PackageReference: TSOP-2-44; PackageDescription: 44-Pin 400 mil TSOP-2, Body 18.41 x 10.16 mm, Pitch 0.8 mm; Mounting Technology: Surface Mount; ComponentLink1Description: Manufacturer URL; ComponentLink1URL: http://www.issi.com/US/index.shtml; ComponentLink2Description: Datasheet; ComponentLink2URL: http://www.issi.com/WW/pdf/61C3216AL.pdf; ComponentLink3Description: Package Specification; ComponentLink3URL: http://www.issi.com/WW/pdf/61-64WV6416EEBLL.pdf
footprint ISSI-TSOP-2-44_N (SOP, 44-Leads, Body 18.5x10.3mm, Pitch 0.8mm, IPC Medium Density)
pins: 1 NC "No Connection", 2 A14 (in) "Address Inputs", 3 A13 (in) "Address Inputs", 4 A12 (in) "Address Inputs", 5 A11 (in) "Address Inputs", 6 ~{CE} (in) "Chip Enable Input", 7 I/O0 (io) "Data Inputs/Outputs", 8 I/O1 (io) "Data Inputs/Outputs", 9 I/O2 (io) "Data Inputs/Outputs", 10 I/O3 (io) "Data Inputs/Outputs", 11 VDD (power) "Power", 12 GND (power) "Ground", 13 I/O4 (io) "Data Inputs/Outputs", 14 I/O5 (io) "Data Inputs/Outputs", 15 I/O6 (io) "Data Inputs/Outputs", 16 I/O7 (io) "Data Inputs/Outputs", 17 ~{WE} (in) "Write Enable Input", 18 A10 (in) "Address Inputs", 19 A9 (in) "Address Inputs", 20 A8 (in) "Address Inputs", 21 A7 (in) "Address Inputs", 22 NC "No Connection", 23 NC "No Connection", 24 A6 (in) "Address Inputs", 25 A5 (in) "Address Inputs", 26 A4 (in) "Address Inputs", 27 A3 (in) "Address Inputs", 28 NC "No Connection", 29 I/O8 (io) "Data Inputs/Outputs", 30 I/O9 (io) "Data Inputs/Outputs", 31 I/O10 (io) "Data Inputs/Outputs", 32 I/O11 (io) "Data Inputs/Outputs", 33 VDD (power) "Power", 34 GND (power) "Ground", 35 I/O12 (io) "Data Inputs/Outputs", 36 I/O13 (io) "Data Inputs/Outputs", 37 I/O14 (io) "Data Inputs/Outputs", 38 I/O15 (io) "Data Inputs/Outputs", 39 ~{LB} (in) "Lower-byte Control (I/O0-I/O7)", 40 ~{UB} (in) "Upper-byte Control (I/O8-I/O15)", 41 ~{OE} (in) "Output Enable Input", 42 A2 (in) "Address Inputs", 43 A1 (in) "Address Inputs", 44 A0 (in) "Address Inputs"

## IS61C3216AL-12TI
designator U?
512 K High Speed CMOS SRAM, 32 K x 16, -40 to 85 degC, 44-Pin SOP (TSOP-2-44); Manufacturer: Integrated Silicon Solution Inc (ISSI); PartNumber: IS61C3216AL-12TI; Density: 512K; Organization: 32K x 16; Packing: Tray / Tube; Speed (ns): 12; DatasheetVersion: Rev. A; PackageVersion: Rev. F, 06/2008; PackageReference: TSOP-2-44; PackageDescription: 44-Pin 400 mil TSOP-2, Body 18.41 x 10.16 mm, Pitch 0.8 mm; Supplier 1: Mouser; Supplier Part Number 1: N/A; Mounting Technology: Surface Mount; ComponentLink1Description: Manufacturer URL; ComponentLink1URL: http://www.issi.com/US/index.shtml; ComponentLink2Description: Datasheet; ComponentLink2URL: http://www.issi.com/WW/pdf/61C3216AL.pdf; ComponentLink3Description: Package Specification; ComponentLink3URL: http://www.issi.com/WW/pdf/61-64WV6416EEBLL.pdf
footprint ISSI-TSOP-2-44_N (SOP, 44-Leads, Body 18.5x10.3mm, Pitch 0.8mm, IPC Medium Density)
pins: 1 NC "No Connection", 2 A14 (in) "Address Inputs", 3 A13 (in) "Address Inputs", 4 A12 (in) "Address Inputs", 5 A11 (in) "Address Inputs", 6 ~{CE} (in) "Chip Enable Input", 7 I/O0 (io) "Data Inputs/Outputs", 8 I/O1 (io) "Data Inputs/Outputs", 9 I/O2 (io) "Data Inputs/Outputs", 10 I/O3 (io) "Data Inputs/Outputs", 11 VDD (power) "Power", 12 GND (power) "Ground", 13 I/O4 (io) "Data Inputs/Outputs", 14 I/O5 (io) "Data Inputs/Outputs", 15 I/O6 (io) "Data Inputs/Outputs", 16 I/O7 (io) "Data Inputs/Outputs", 17 ~{WE} (in) "Write Enable Input", 18 A10 (in) "Address Inputs", 19 A9 (in) "Address Inputs", 20 A8 (in) "Address Inputs", 21 A7 (in) "Address Inputs", 22 NC "No Connection", 23 NC "No Connection", 24 A6 (in) "Address Inputs", 25 A5 (in) "Address Inputs", 26 A4 (in) "Address Inputs", 27 A3 (in) "Address Inputs", 28 NC "No Connection", 29 I/O8 (io) "Data Inputs/Outputs", 30 I/O9 (io) "Data Inputs/Outputs", 31 I/O10 (io) "Data Inputs/Outputs", 32 I/O11 (io) "Data Inputs/Outputs", 33 VDD (power) "Power", 34 GND (power) "Ground", 35 I/O12 (io) "Data Inputs/Outputs", 36 I/O13 (io) "Data Inputs/Outputs", 37 I/O14 (io) "Data Inputs/Outputs", 38 I/O15 (io) "Data Inputs/Outputs", 39 ~{LB} (in) "Lower-byte Control (I/O0-I/O7)", 40 ~{UB} (in) "Upper-byte Control (I/O8-I/O15)", 41 ~{OE} (in) "Output Enable Input", 42 A2 (in) "Address Inputs", 43 A1 (in) "Address Inputs", 44 A0 (in) "Address Inputs"